# Altium footprint library PCB1_1.PcbLib: 64 footprints (part 2 of 4)
Each footprint in its own frame and in the unit in brackets; x right, y up, seen from the top. Pads: shape width x height; smd on the part's side, far side on the other; paste and mask are expansions set on the pad; w line width, h text height; cw(c..) or ccw(c..) is an arc to the next point about the centre after c.
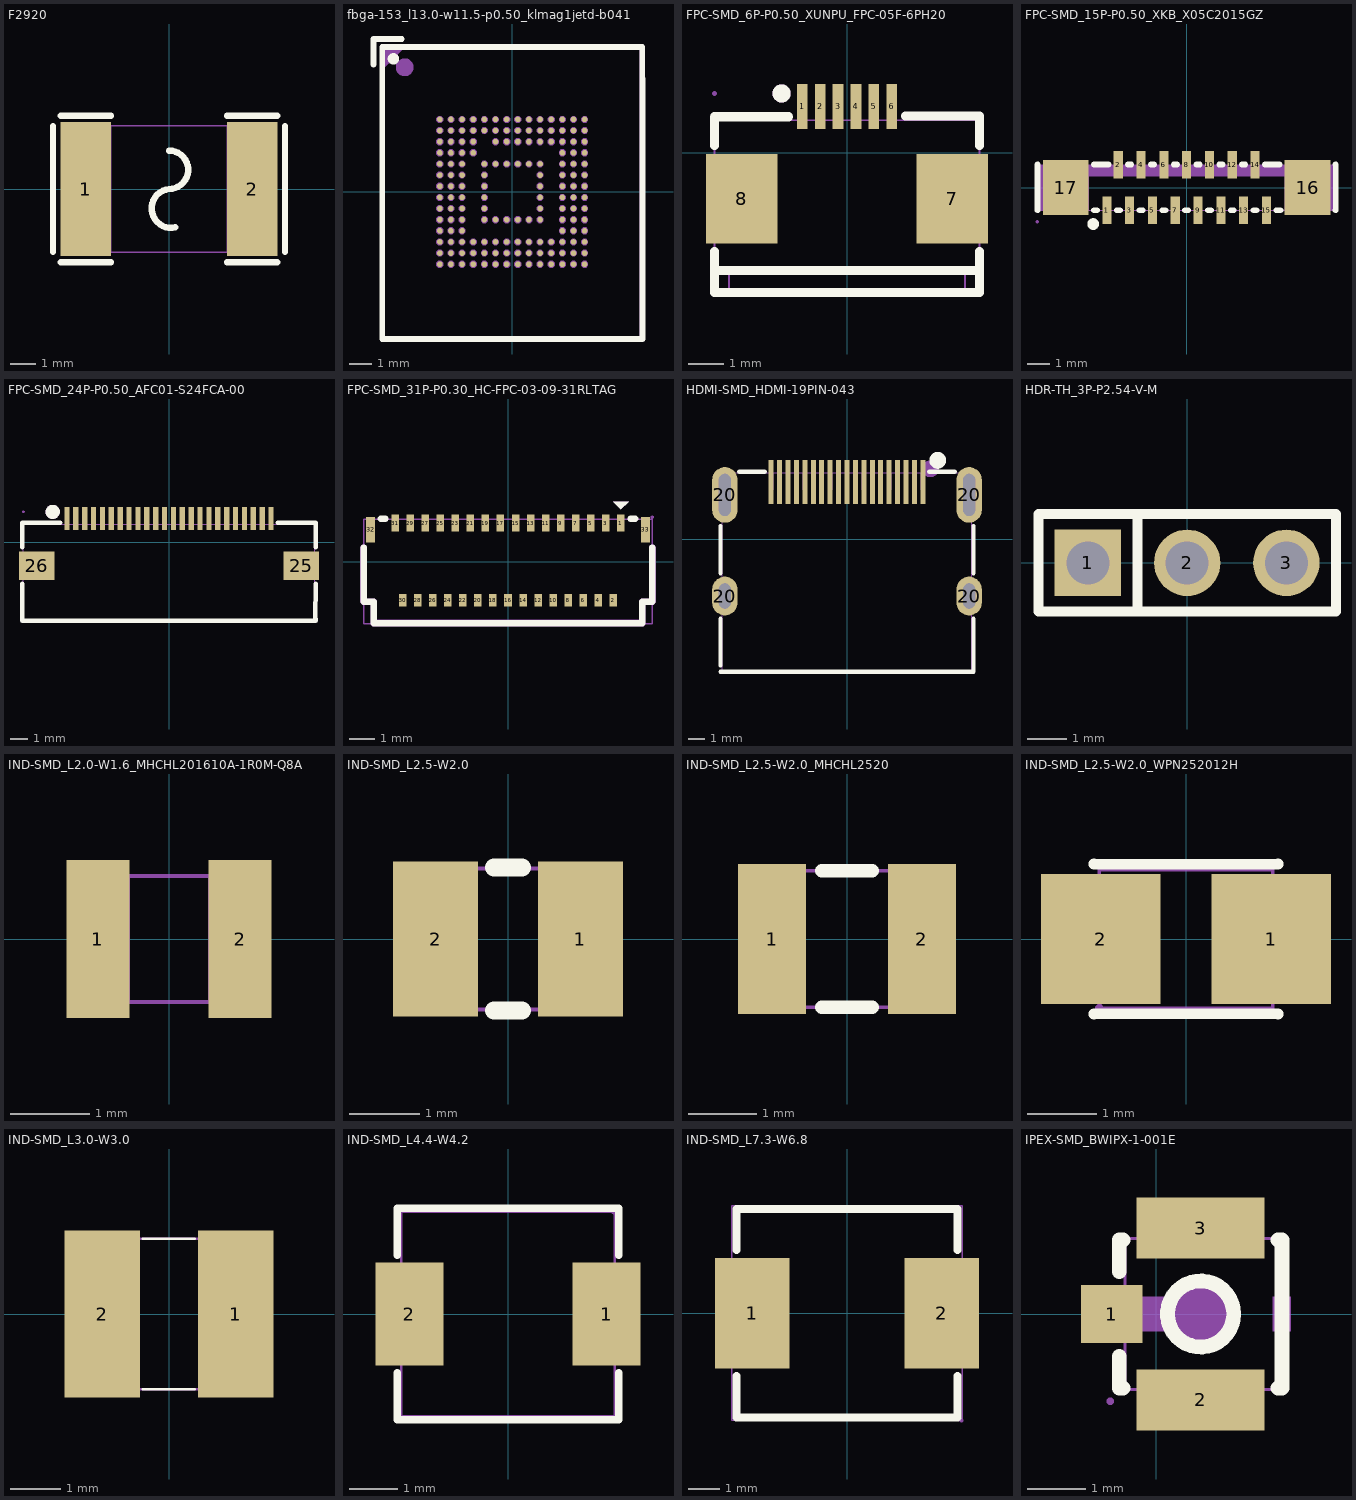
[diagram p1: the footprints below, top view; thin cyan lines are the x and y axes]

## F2920 [mm]
pads (2):
  rect 2x5.3 smd: 1(-3.3,0) 2(3.3,0)
Top Overlay:
  lines w0.254: -4.6,-2.5 -4.6,2.5 ; -4.3,-2.9 -2.3,-2.9 ; -4.3,2.9 -2.3,2.9 ; 0,1.524 cw(c0,0.762) 0,0 ccw(c0.085,-0.769) 0.254,-1.524 ; 2.3,-2.9 4.3,-2.9 ; 2.3,2.9 4.3,2.9 ; 4.6,-2.5 4.6,2.5
Mechanical 5:
  lines w0.051: -3.7,-2.5 -3.7,2.5 3.7,2.5 3.7,-2.5 -3.7,-2.5
Mechanical 6:
  region: -3.7,-2.56 -3.725,-2.56 -3.76,-2.525 -3.76,-2.475 -3.725,-2.44 -3.7,-2.44 -3.675,-2.44 -3.64,-2.475 -3.64,-2.525 -3.675,-2.56 -3.7,-2.56
Mechanical 7:
  region: 3.7,-2.5 2.3,-2.5 2.3,2.5 3.7,2.5
  region: -3.7,2.5 -2.3,2.5 -2.3,-2.5 -3.7,-2.5
3D body "F2920.step": height 0.5, standoff 0, extent -3.68,-2.56 3.68,2.56

## fbga-153_l13.0-w11.5-p0.50_klmag1jetd-b041 [mm]
pads (152):
  round 0.25 smd paste-100 mask+0.05: A1(-3.25,3.25) A2(-2.75,3.25) A3(-2.25,3.25) A4(-1.75,3.25) A5(-1.25,3.25) A6(-0.75,3.25) A7(-0.25,3.25) A8(0.25,3.25) A9(0.75,3.25) A10(1.25,3.25) A11(1.75,3.25) A12(2.25,3.25) A13(2.75,3.25) A14(3.25,3.25) B1(-3.25,2.75) B2(-2.75,2.75) B3(-2.25,2.75) B4(-1.75,2.75) B5(-1.25,2.75) B6(-0.75,2.75) B7(-0.25,2.75) B8(0.25,2.75) B9(0.75,2.75) B10(1.25,2.75) B11(1.75,2.75) B12(2.25,2.75) B13(2.75,2.75) B14(3.25,2.75) C1(-3.25,2.25) C2(-2.75,2.25) C3(-2.25,2.25) C4(-1.75,2.25) C6(-0.75,2.25) C7(-0.25,2.25) C8(0.25,2.25) C9(0.75,2.25) C10(1.25,2.25) C11(1.75,2.25) C12(2.25,2.25) C13(2.75,2.25) C14(3.25,2.25) D1(-3.25,1.75) D2(-2.75,1.75) D3(-2.25,1.75) D4(-1.75,1.75) D12(2.25,1.75) D13(2.75,1.75) D14(3.25,1.75) E1(-3.25,1.25) E2(-2.75,1.25) E3(-2.25,1.25) E5(-1.25,1.25) E6(-0.75,1.25) E7(-0.25,1.25) E8(0.25,1.25) E9(0.75,1.25) E10(1.25,1.25) E12(2.25,1.25) E13(2.75,1.25) E14(3.25,1.25) F1(-3.25,0.75) F2(-2.75,0.75) F3(-2.25,0.75) F5(-1.25,0.75) F10(1.25,0.75) F12(2.25,0.75) F13(2.75,0.75) F14(3.25,0.75) G1(-3.25,0.25) G2(-2.75,0.25) G3(-2.25,0.25) G5(-1.25,0.25) G10(1.25,0.25) G12(2.25,0.25) G13(2.75,0.25) G14(3.25,0.25) H1(-3.25,-0.25) H2(-2.75,-0.25) H3(-2.25,-0.25) H5(-1.25,-0.25) H10(1.25,-0.25) H12(2.25,-0.25) H13(2.75,-0.25) H14(3.25,-0.25) J1(-3.25,-0.75) J2(-2.75,-0.75) J3(-2.25,-0.75) J5(-1.25,-0.75) J10(1.25,-0.75) J12(2.25,-0.75) J13(2.75,-0.75) J14(3.25,-0.75) K1(-3.25,-1.25) K2(-2.75,-1.25) K3(-2.25,-1.25) K5(-1.25,-1.25) K6(-0.75,-1.25) K7(-0.25,-1.25) K8(0.25,-1.25) K9(0.75,-1.25) K10(1.25,-1.25) K12(2.25,-1.25) K13(2.75,-1.25) K14(3.25,-1.25) L1(-3.25,-1.75) L2(-2.75,-1.75) L3(-2.25,-1.75) L12(2.25,-1.75) L13(2.75,-1.75) L14(3.25,-1.75) M1(-3.25,-2.25) M2(-2.75,-2.25) M3(-2.25,-2.25) M4(-1.75,-2.25) M5(-1.25,-2.25) M6(-0.75,-2.25) M7(-0.25,-2.25) M8(0.25,-2.25) M9(0.75,-2.25) M10(1.25,-2.25) M11(1.75,-2.25) M12(2.25,-2.25) M13(2.75,-2.25) M14(3.25,-2.25) N1(-3.25,-2.75) N2(-2.75,-2.75) N3(-2.25,-2.75) N4(-1.75,-2.75) N5(-1.25,-2.75) N6(-0.75,-2.75) N7(-0.25,-2.75) N8(0.25,-2.75) N9(0.75,-2.75) N10(1.25,-2.75) N11(1.75,-2.75) N12(2.25,-2.75) N13(2.75,-2.75) N14(3.25,-2.75) P1(-3.25,-3.25) P2(-2.75,-3.25) P3(-2.25,-3.25) P4(-1.75,-3.25) P5(-1.25,-3.25) P6(-0.75,-3.25) P7(-0.25,-3.25) P8(0.25,-3.25) P9(0.75,-3.25) P10(1.25,-3.25) P11(1.75,-3.25) P12(2.25,-3.25) P13(2.75,-3.25) P14(3.25,-3.25)
Top Overlay:
  circle w0.254: c-5.334,5.969 r0.127
  lines w0.254: -6.223,5.715 -6.223,6.858 -4.953,6.858 ; -5.841,-6.605 5.843,-6.605 5.843,5.079 ; -5.841,-6.5 -5.841,6.5 5.842,6.5 5.842,5.079
Top Paste:
  drawing of 152 lines, arcs and shapes, not listed
Mechanical 4:
  circle w0.4: c-4.826,5.588 r0.2
  region: -4.826,6.477 -5.715,6.477 -5.715,5.588
Mechanical 5:
  lines w0.051: -5.75,-6.5 -5.75,6.5 5.75,6.5 5.75,-6.5 -5.75,-6.5
Mechanical 6:
  region: -5.75,6.44 -5.775,6.44 -5.81,6.475 -5.81,6.525 -5.775,6.56 -5.75,6.56 -5.725,6.56 -5.69,6.525 -5.69,6.475 -5.725,6.44 -5.75,6.44
Mechanical 7:
  drawing of 152 lines, arcs and shapes, not listed
3D body "FBGA-153_L13.0-W11.5-P0.50_KLMAG1JETD-B041.step": height 0.89, standoff -0.22, extent -5.749,-6.5 5.751,6.5

## FPC-SMD_6P-P0.50_XUNPU_FPC-05F-6PH20 [mm]
pads (8):
  rect 0.3x1.25 smd paste+0 mask+0.05: 1(-1.25,1.288) 2(-0.75,1.288) 3(-0.25,1.288) 4(0.25,1.288) 5(0.75,1.288) 6(1.25,1.288)
  rect 2x2.5 smd paste+0 mask+0.05: 7(2.94,-1.288) 8(-2.94,-1.288)
Top Overlay:
  circle w0.254: c-1.827,1.651 r0.127
  lines w0.254: -3.7,-2.769 -3.7,-3.912 3.7,-3.912 3.7,-2.769 ; -3.7,0.194 -3.7,1 -1.631,1 ; -3.55,-3.3 3.7,-3.3 ; 1.631,1.016 3.7,1.016 3.7,0.194
Mechanical 4:
  circle w0.254: c-1.827,1.651 r0.127
Mechanical 5:
  lines w0.051: -3.7,-3.3 -2.65,-3.3 -2.65,-3.35 -3.25,-3.35 -3.3,-3.4 -3.3,-3.9 -3.25,-3.95 3.25,-3.95 3.3,-3.9 3.3,-3.4 3.25,-3.35 2.65,-3.35 2.65,-3.3 3.7,-3.3 3.7,0 3.7,0.8 3.6,0.9 -3.6,0.9 -3.7,0.8 -3.7,-3.3
Mechanical 6:
  region: -3.64,1.65 -3.64,1.675 -3.675,1.71 -3.725,1.71 -3.76,1.675 -3.76,1.65 -3.76,1.625 -3.725,1.59 -3.675,1.59 -3.64,1.625 -3.64,1.65
Mechanical 7:
  region: -3.7,-1.8 -2.25,-1.8 -2.25,-0.7 -3.7,-0.7
  region: 3.7,-0.7 2.25,-0.7 2.25,-1.8 3.7,-1.8
  region: -1.35,1.65 -1.35,0.8 -1.15,0.8 -1.15,1.65
  region: -0.85,1.65 -0.85,0.8 -0.65,0.8 -0.65,1.65
  region: -0.35,1.65 -0.35,0.8 -0.15,0.8 -0.15,1.65
  region: 0.15,1.65 0.15,0.8 0.35,0.8 0.35,1.65
  region: 0.65,1.65 0.65,0.8 0.85,0.8 0.85,1.65
  region: 1.15,1.65 1.15,0.8 1.35,0.8 1.35,1.65
3D body "FPC-SMD_6P-P0.50_XUNPU_FPC-05F-6PH20.step": height 2.01, standoff 0, extent -3.7,-3.937 3.7,1.663

## FPC-SMD_15P-P0.50_XKB_X05C2015GZ [mm]
pads (17):
  rect 0.4x1.2 smd: 1(-3.5,-1) 2(-3,1) 3(-2.5,-1) 4(-2,1) 5(-1.5,-1) 6(-1,1) 7(-0.5,-1) 8(0,1) 9(0.5,-1) 10(1,1) 11(1.5,-1) 12(2,1) 13(2.5,-1) 14(3,1) 15(3.5,-1)
  rect 2x2.4 smd: 16(5.3,0) 17(-5.3,0)
Top Overlay:
  circle w0.254: c-4.1,-1.6 r0.127
  lines w0.254: -6.54,1 -6.54,-1 -6.531,-1 ; -6.54,1.014 -6.531,1.014 ; -4.069,-1 -3.931,-1 ; -4.069,1.014 -3.431,1.014 ; -3.069,-1 -2.931,-1 ; -2.569,1.014 -2.431,1.014 ; -2.069,-1 -1.931,-1 ; -1.569,1.014 -1.431,1.014 ; -1.069,-1 -0.931,-1 ; -0.569,1.014 -0.431,1.014 ; -0.069,-1 0.069,-1 ; 0.431,1.014 0.569,1.014 ; 0.931,-1 1.069,-1 ; 1.431,1.014 1.569,1.014 ; 1.931,-1 2.069,-1 ; 2.431,1.014 2.569,1.014 ; 2.931,-1 3.069,-1 ; 3.431,1.014 4.069,1.014 ; 3.931,-1 4.069,-1 ; 3.937,-1 4.111,-1 ; 6.531,-1 6.541,-1 ; 6.531,1.014 6.541,1.014 6.541,-0.986
Mechanical 4:
  region: 6.5,-1 6.5,1 -6.5,1 -6.5,-1 -4.3,-1 -4.3,0.5 4.3,0.5 4.3,-1
Mechanical 5:
  lines w0.051: -6.55,-1 6.55,-1 6.55,1 -6.55,1 -6.55,-1
Mechanical 6:
  region: -6.55,-1.44 -6.525,-1.44 -6.49,-1.475 -6.49,-1.525 -6.525,-1.56 -6.55,-1.56 -6.575,-1.56 -6.61,-1.525 -6.61,-1.475 -6.575,-1.44 -6.55,-1.44
Mechanical 7:
  region: 3.4,-0.95 3.6,-0.95 3.6,-1.5 3.4,-1.5
  region: 2.9,1.5 3.1,1.5 3.1,0.95 2.9,0.95
  region: 2.4,-0.95 2.6,-0.95 2.6,-1.5 2.4,-1.5
  region: 1.9,1.5 2.1,1.5 2.1,0.95 1.9,0.95
  region: 1.4,-0.95 1.6,-0.95 1.6,-1.5 1.4,-1.5
  region: 0.9,1.5 1.1,1.5 1.1,0.95 0.9,0.95
  region: 0.4,-0.95 0.6,-0.95 0.6,-1.5 0.4,-1.5
  region: -0.1,1.5 0.1,1.5 0.1,0.95 -0.1,0.95
  region: -0.6,-0.95 -0.4,-0.95 -0.4,-1.5 -0.6,-1.5
  region: -1.1,1.5 -0.9,1.5 -0.9,0.95 -1.1,0.95
  region: -1.6,-0.95 -1.4,-0.95 -1.4,-1.5 -1.6,-1.5
  region: -2.1,1.5 -1.9,1.5 -1.9,0.95 -2.1,0.95
  region: -2.6,-0.95 -2.4,-0.95 -2.4,-1.5 -2.6,-1.5
  region: -3.1,1.5 -2.9,1.5 -2.9,0.95 -3.1,0.95
  region: -3.6,-0.95 -3.4,-0.95 -3.4,-1.5 -3.6,-1.5
  region: 4.3,1 6.3,1 6.3,-1 4.3,-1
  region: -6.3,1 -4.3,1 -4.3,-1 -6.3,-1
3D body "FPC-SMD_15P-P0.50_XKB_X05C2015GZ.step": height 4.44, standoff 0.05, extent -6.55,-1.5 6.55,1.5

## FPC-SMD_24P-P0.50_AFC01-S24FCA-00 [mm]
pads (26):
  rect 0.3x1.3 smd paste+0 mask+0.05: 1(-5.75,1.325) 2(-5.25,1.325) 3(-4.75,1.325) 4(-4.25,1.325) 5(-3.75,1.325) 6(-3.25,1.325) 7(-2.75,1.325) 8(-2.25,1.325) 9(-1.75,1.325) 10(-1.25,1.325) 11(-0.75,1.325) 12(-0.25,1.325) 13(0.25,1.325) 14(0.75,1.325) 15(1.25,1.325) 16(1.75,1.325) 17(2.25,1.325) 18(2.75,1.325) 19(3.25,1.325) 20(3.75,1.325) 21(4.25,1.325) 22(4.75,1.325) 23(5.25,1.325) 24(5.75,1.325)
  rect 2x1.6 smd: 25(7.45,-1.325) 26(-7.45,-1.325)
Top Overlay:
  circle w0.4: c-6.55,1.7 r0.2
  lines w0.254: -8.264,-2.355 -8.264,-4.445 8.256,-4.445 8.256,-4.318 ; -8.263,-0.294 -8.263,1.088 -6.131,1.088 ; 6.131,1.088 8.263,1.088 8.263,-0.294 ; 8.25,-4.35 8.263,-2.356
Mechanical 4:
  circle w0.4: c-6.55,1.7 r0.2
Mechanical 5:
  lines w0.051: -8.2,-4.395 8.2,-4.395 8.2,1.005 -8.2,1.005 -8.2,-4.395
Mechanical 6:
  region: -8.14,1.705 -8.14,1.68 -8.175,1.645 -8.225,1.645 -8.26,1.68 -8.26,1.705 -8.26,1.73 -8.225,1.765 -8.175,1.765 -8.14,1.73 -8.14,1.705
Mechanical 7:
  region: 5.85,0.955 5.65,0.955 5.65,1.705 5.85,1.705
  region: 5.35,0.955 5.15,0.955 5.15,1.705 5.35,1.705
  region: 4.85,0.955 4.65,0.955 4.65,1.705 4.85,1.705
  region: 4.35,0.955 4.15,0.955 4.15,1.705 4.35,1.705
  region: 3.85,0.955 3.65,0.955 3.65,1.705 3.85,1.705
  region: 3.35,0.955 3.15,0.955 3.15,1.705 3.35,1.705
  region: 2.85,0.955 2.65,0.955 2.65,1.705 2.85,1.705
  region: 2.35,0.955 2.15,0.955 2.15,1.705 2.35,1.705
  region: 1.85,0.955 1.65,0.955 1.65,1.705 1.85,1.705
  region: 1.35,0.955 1.15,0.955 1.15,1.705 1.35,1.705
  region: 0.85,0.955 0.65,0.955 0.65,1.705 0.85,1.705
  region: 0.35,0.955 0.15,0.955 0.15,1.705 0.35,1.705
  region: -0.15,0.955 -0.35,0.955 -0.35,1.705 -0.15,1.705
  region: -0.65,0.955 -0.85,0.955 -0.85,1.705 -0.65,1.705
  region: -1.15,0.955 -1.35,0.955 -1.35,1.705 -1.15,1.705
  region: -1.65,0.955 -1.85,0.955 -1.85,1.705 -1.65,1.705
  region: -2.15,0.955 -2.35,0.955 -2.35,1.705 -2.15,1.705
  region: -2.65,0.955 -2.85,0.955 -2.85,1.705 -2.65,1.705
  region: -3.15,0.955 -3.35,0.955 -3.35,1.705 -3.15,1.705
  region: -3.65,0.955 -3.85,0.955 -3.85,1.705 -3.65,1.705
  region: -4.15,0.955 -4.35,0.955 -4.35,1.705 -4.15,1.705
  region: -4.65,0.955 -4.85,0.955 -4.85,1.705 -4.65,1.705
  region: -5.15,0.955 -5.35,0.955 -5.35,1.705 -5.15,1.705
  region: -5.65,0.955 -5.85,0.955 -5.85,1.705 -5.65,1.705
  region: -6.7,-0.825 -6.7,-1.825 -8.2,-1.825 -8.2,-0.825
  region: 8.2,-0.825 8.2,-1.825 6.7,-1.825 6.7,-0.825
3D body "FPC-SMD_24P-P0.50_AFC01-S24FCA-00.step": height 1.98, standoff -0.03, extent -8.2,-4.453 8.2,1.647

## FPC-SMD_31P-P0.30_HC-FPC-03-09-31RLTAG [mm]
pads (33):
  rect 0.3x0.67 smd paste+0 mask+0.05: 1(4.5,1.533) 3(3.9,1.533) 5(3.3,1.533) 7(2.7,1.533) 9(2.1,1.533) 11(1.5,1.533) 13(0.9,1.533) 15(0.3,1.533) 17(-0.3,1.533) 19(-0.9,1.533) 21(-1.5,1.533) 23(-2.1,1.533) 25(-2.7,1.533) 27(-3.3,1.533) 29(-3.9,1.533) 31(-4.5,1.533)
  rect 0.3x0.5 smd paste+0 mask+0.05: 2(4.2,-1.533) 4(3.6,-1.533) 6(3,-1.533) 8(2.4,-1.533) 10(1.8,-1.533) 12(1.2,-1.533) 14(0.6,-1.533) 16(0,-1.533) 18(-0.6,-1.533) 20(-1.2,-1.533) 22(-1.8,-1.533) 24(-2.4,-1.533) 26(-3,-1.533) 28(-3.6,-1.533) 30(-4.2,-1.533)
  rect 0.35x1 smd paste+0 mask+0.05: 32(-5.475,1.268) 33(5.475,1.268)
Top Overlay:
  region: 4.5,2.082 4.8,2.382 4.2,2.382
  lines w0.254: -5.75,0.559 -5.75,-1.6 -5.35,-1.6 -5.35,-2.45 5.35,-2.45 5.35,-1.6 5.75,-1.6 5.75,0.559 ; -5.069,1.7 -4.881,1.7 ; 4.881,1.7 5.069,1.7
Mechanical 4:
  region: -5.623,0.559 -5.623,-1.473 -5.35,-1.473 -5.301,-1.483 -5.26,-1.51 -5.233,-1.551 -5.223,-1.6 -5.223,-2.323 5.223,-2.323 5.223,-1.6 5.233,-1.551 5.26,-1.51 5.301,-1.483 5.35,-1.473 5.623,-1.473 5.623,0.559 5.633,0.608 5.66,0.649 5.701,0.677 5.75,0.686 5.799,0.677 5.84,0.649 5.867,0.608 5.877,0.559 5.877,-1.6 5.867,-1.649 5.84,-1.69 5.799,-1.717 5.75,-1.727 5.477,-1.727 5.477,-2.45 5.467,-2.499 5.44,-2.54 5.399,-2.567 5.35,-2.577 -5.35,-2.577 -5.399,-2.567 -5.44,-2.54 -5.467,-2.499 -5.477,-2.45 -5.477,-1.727 -5.75,-1.727 -5.799,-1.717 -5.84,-1.69 -5.867,-1.649 -5.877,-1.6 -5.877,0.559 -5.867,0.608 -5.84,0.649 -5.799,0.677 -5.75,0.686 -5.701,0.677 -5.66,0.649 -5.633,0.608
  region: 4.5,2.082 4.8,2.382 4.2,2.382
Mechanical 5:
  lines w0.051: -5.75,-2.475 5.75,-2.475 5.75,1.695 -5.75,1.695 -5.75,-2.475
Mechanical 6:
  region: 5.81,1.773 5.81,1.748 5.775,1.713 5.725,1.713 5.69,1.748 5.69,1.773 5.69,1.797 5.725,1.833 5.775,1.833 5.81,1.797 5.81,1.773
Mechanical 7:
  drawing of 33 lines, arcs and shapes, not listed
3D body "FPC-SMD_31P-P0.30_HC-FPC-03-09-31RLTAG.step": height 1, standoff -0.02, extent -5.76,-2.52 5.75,1.73

## HDMI-SMD_HDMI-19PIN-043 [mm]
pads (23):
  rect 0.3x2.6 smd paste-100 mask+0.05: 1(4.5,3.38) 2(4,3.38) 3(3.5,3.38) 4(3,3.38) 5(2.5,3.38) 6(2,3.38) 7(1.5,3.38) 8(1,3.38) 9(0.5,3.38) 10(0,3.38) 11(-0.5,3.38) 12(-1,3.38) 13(-1.5,3.38) 14(-2,3.38) 15(-2.5,3.38) 16(-3,3.38) 17(-3.5,3.38) 18(-4,3.38) 19(-4.5,3.38)
  oval 1.5x2.3 hole 0.7 slot 1.5 at 90 deg paste+0 mask+0.05: 20(-7.25,-3.38) 20(7.25,-3.38)
  oval 1.5x3.3 hole 0.7 slot 2.5 at 90 deg paste+0 mask+0.05: 20(-7.25,2.62) 20(7.25,2.62)
Top Overlay:
  circle w0.5: c5.38,4.67 r0.25
  lines w0.254: -7.5,-7.88 7.5,-7.88 7.5,-4.729 ; -7.5,-7.5 -7.5,-4.729 ; -7.5,-2.031 -7.5,0.771 ; -6.395,4 -4.881,4 ; 4.881,4 6.395,4 ; 7.5,-2.031 7.5,0.771
Top Paste:
  drawing of 23 lines, arcs and shapes, not listed
Mechanical 4:
  circle w0.5: c4.95,4.17 r0.25
Mechanical 5:
  lines w0.051: -7.4,-7.88 7.4,-7.88 7.4,3.92 -7.4,3.92 -7.4,-7.88
Mechanical 6:
  region: 7.39,3.92 7.39,3.945 7.425,3.98 7.475,3.98 7.51,3.945 7.51,3.92 7.51,3.895 7.475,3.86 7.425,3.86 7.39,3.895 7.39,3.92
Mechanical 7:
  region: -7.45,-2.88 -7.05,-2.88 -7.05,-3.88 -7.45,-3.88
  region: 7.05,-2.88 7.45,-2.88 7.45,-3.88 7.05,-3.88
  region: 7.05,3.62 7.45,3.62 7.45,1.62 7.05,1.62
  region: -7.45,3.62 -7.05,3.62 -7.05,1.62 -7.45,1.62
  region: -4.615,3.92 -4.385,3.92 -4.385,2.92 -4.615,2.92
  region: -4.115,3.92 -3.885,3.92 -3.885,2.92 -4.115,2.92
  region: -3.615,3.92 -3.385,3.92 -3.385,2.92 -3.615,2.92
  region: -3.115,3.92 -2.885,3.92 -2.885,2.92 -3.115,2.92
  region: -2.615,3.92 -2.385,3.92 -2.385,2.92 -2.615,2.92
  region: -2.115,3.92 -1.885,3.92 -1.885,2.92 -2.115,2.92
  region: -1.615,3.92 -1.385,3.92 -1.385,2.92 -1.615,2.92
  region: -1.115,3.92 -0.885,3.92 -0.885,2.92 -1.115,2.92
  region: -0.615,3.92 -0.385,3.92 -0.385,2.92 -0.615,2.92
  region: -0.115,3.92 0.115,3.92 0.115,2.92 -0.115,2.92
  region: 0.385,3.92 0.615,3.92 0.615,2.92 0.385,2.92
  region: 0.885,3.92 1.115,3.92 1.115,2.92 0.885,2.92
  region: 1.385,3.92 1.615,3.92 1.615,2.92 1.385,2.92
  region: 1.885,3.92 2.115,3.92 2.115,2.92 1.885,2.92
  region: 2.385,3.92 2.615,3.92 2.615,2.92 2.385,2.92
  region: 2.885,3.92 3.115,3.92 3.115,2.92 2.885,2.92
  region: 3.385,3.92 3.615,3.92 3.615,2.92 3.385,2.92
  region: 3.885,3.92 4.115,3.92 4.115,2.92 3.885,2.92
  region: 4.385,3.92 4.615,3.92 4.615,2.92 4.385,2.92
3D body "HDMI-SMD_HDMI-19PIN-043.step": height 6.34, standoff -1.87, extent -7.5,-7.88 7.5,4.17

## HDR-TH_3P-P2.54-V-M [mm]
pads (3):
  rect 1.7x1.7 hole 1.1: 1(-2.54,0)
  round 1.7 hole 1.1: 2(0,0) 3(2.54,0)
Top Overlay:
  lines w0.254: -1.27,-1.25 -1.27,1.25 ; 3.809,-1.25 3.809,1.25 -3.81,1.25 -3.81,-1.25 3.81,-1.25
Mechanical 5:
  lines w0.051: -3.81,-1.25 -3.81,1.25 3.81,1.25 3.81,-1.25 -3.81,-1.25
Mechanical 6:
  region: -3.81,-1.19 -3.785,-1.19 -3.75,-1.225 -3.75,-1.275 -3.785,-1.31 -3.81,-1.31 -3.835,-1.31 -3.87,-1.275 -3.87,-1.225 -3.835,-1.19 -3.81,-1.19
Mechanical 7:
  region: 2.22,0.32 2.86,0.32 2.86,-0.32 2.22,-0.32
  region: -0.32,0.32 0.32,0.32 0.32,-0.32 -0.32,-0.32
  region: -2.86,0.32 -2.22,0.32 -2.22,-0.32 -2.86,-0.32
3D body "HDR-TH_3P-P2.54-V-M-1.step": height 8.5, standoff -3, extent -3.82,-1.27 3.81,1.27

## IND-SMD_L2.0-W1.6_MHCHL201610A-1R0M-Q8A [mm]
pads (2):
  rect 0.8x2 smd paste+0 mask+0.051: 1(-0.9,0) 2(0.9,0)
Mechanical 5:
  lines w0.051: -1,-0.8 -1,0.8 1,0.8 1,-0.8 -1,-0.8
Mechanical 6:
  region: -1.06,-0.8 -1.06,-0.775 -1.025,-0.74 -0.975,-0.74 -0.94,-0.775 -0.94,-0.8 -0.94,-0.825 -0.975,-0.86 -1.025,-0.86 -1.06,-0.825 -1.06,-0.8
Mechanical 7:
  region: 0.5,0.8 1,0.8 1,-0.8 0.5,-0.8
  region: -1,0.8 -0.5,0.8 -0.5,-0.8 -1,-0.8
3D body "IND-SMD_L2.0-W1.6_MHCHL201610A-1R0M-Q8A.step": height 1, standoff -0.01, extent -1.01,-0.81 1.01,0.81

## IND-SMD_L2.5-W2.0 [mm]
pads (2):
  rect 1.2x2.2 smd: 1(1.028,0) 2(-1.028,0)
Top Overlay:
  lines w0.254: -0.197,-1.016 0.197,-1.016 ; -0.197,1.016 0.197,1.016
Mechanical 5:
  lines w0.051: -1.25,-1 -1.25,1 1.25,1 1.25,-1 -1.25,-1
Mechanical 6:
  region: -1.28,-0.97 -1.28,-0.945 -1.245,-0.91 -1.195,-0.91 -1.16,-0.945 -1.16,-0.97 -1.16,-0.995 -1.195,-1.03 -1.245,-1.03 -1.28,-0.995 -1.28,-0.97
Mechanical 7:
  region: -1.25,1 -0.45,1 -0.45,-1 -1.25,-1
  region: 0.45,1 1.25,1 1.25,-1 0.45,-1
3D body "IND-SMD_L2.5-W2.0.step": height 1.2, standoff 0, extent -1.26,-1 1.26,1

## IND-SMD_L2.5-W2.0_MHCHL2520 [mm]
pads (2):
  rect 1x2.2 smd: 1(-1.1,0) 2(1.1,0)
Top Overlay:
  lines w0.2: -0.369,-1 0.369,-1 ; -0.369,1 0.369,1
Mechanical 5:
  lines w0.051: -1.25,-1 1.25,-1 1.25,1 -1.25,1 -1.25,-1
Mechanical 6:
  region: -1.31,-1 -1.31,-0.975 -1.275,-0.94 -1.225,-0.94 -1.19,-0.975 -1.19,-1 -1.19,-1.025 -1.225,-1.06 -1.275,-1.06 -1.31,-1.025 -1.31,-1
Mechanical 7:
  region: 1.25,1 1.25,-1 0.65,-1 0.65,1
  region: -0.65,1 -0.65,-1 -1.25,-1 -1.25,1
3D body "IND-SMD_L2.5-W2.0.step": height 1.2, standoff 0, extent -1.26,-1 1.26,1

## IND-SMD_L2.5-W2.0_WPN252012H [mm]
pads (2):
  rect 1.724x1.87 smd: 1(1.228,0) 2(-1.228,0)
Top Overlay:
  lines w0.152: -1.326,-1.087 -1.326,-1.076 1.326,-1.076 1.326,-1.087 ; -1.326,1.087 -1.326,1.076 1.326,1.076 1.326,1.087
Mechanical 5:
  lines w0.051: -1.25,-1 1.25,-1 1.25,1 -1.25,1 -1.25,-1
Mechanical 6:
  region: -1.31,-1 -1.31,-0.975 -1.275,-0.94 -1.225,-0.94 -1.19,-0.975 -1.19,-1 -1.19,-1.025 -1.225,-1.06 -1.275,-1.06 -1.31,-1.025 -1.31,-1
Mechanical 7:
  region: -0.45,-0.825 -1.25,-0.825 -1.25,0.825 -0.45,0.825
  region: 0.45,0.825 1.25,0.825 1.25,-0.825 0.45,-0.825
3D body "IND-SMD_L2.5-W2.0.step": height 1.2, standoff 0, extent -1.26,-1 1.26,1

## IND-SMD_L3.0-W3.0 [mm]
pads (2):
  rect 1.5x3.32 smd paste+0 mask+0.051: 1(1.328,0) 2(-1.328,0)
Top Overlay:
  lines w0.05: -0.526,-1.5 0.517,-1.5 ; -0.526,1.5 0.517,1.5
Mechanical 5:
  lines w0.051: -1.5,-1.5 1.5,-1.5 1.5,1.5 -1.5,1.5 -1.5,-1.5
Mechanical 6:
  region: -1.56,-1.5 -1.56,-1.475 -1.525,-1.44 -1.475,-1.44 -1.44,-1.475 -1.44,-1.5 -1.44,-1.525 -1.475,-1.56 -1.525,-1.56 -1.56,-1.525 -1.56,-1.5
Mechanical 7:
  region: 1.5,-1.45 1.5,1.45 0.75,1.45 0.75,-1.45
  region: -1.5,-1.45 -1.5,1.45 -0.75,1.45 -0.75,-1.45
3D body "IND-SMD_L3.0-W3.0_SRN3015C.step": height 1.55, standoff 0.04, extent -1.501,-1.5 1.501,1.5

## IND-SMD_L4.4-W4.2 [mm]
pads (2):
  rect 1.4x2.12 smd: 1(2.028,0) 2(-2.028,0)
Top Overlay:
  lines w0.152: -2.276,-1.212 -2.276,-2.176 2.276,-2.176 2.276,-1.212 ; -2.276,1.212 -2.276,2.176 2.276,2.176 2.276,1.212
Mechanical 5:
  lines w0.051: -2.2,-2.1 2.2,-2.1 2.2,2.1 -2.2,2.1 -2.2,-2.1
Mechanical 6:
  region: 2.2,2.16 2.225,2.16 2.26,2.125 2.26,2.075 2.225,2.04 2.2,2.04 2.175,2.04 2.14,2.075 2.14,2.125 2.175,2.16 2.2,2.16
Mechanical 7:
  region: -2.2,1 -1.4,1 -1.4,-1 -2.2,-1
  region: 1.4,1 2.2,1 2.2,-1 1.4,-1
3D body "IND-SMD_L4.4-W4.2.step": height 2.1, standoff 0, extent -2.2,-2.1 2.2,2.1

## IND-SMD_L7.3-W6.8 [mm]
pads (2):
  rect 2.35x3.5 smd: 1(-3,0) 2(3,0)
Top Overlay:
  lines w0.254: -3.5,-2 -3.5,-3.3 3.5,-3.3 3.5,-2 ; -3.5,2 -3.5,3.3 3.5,3.3 3.5,2
Mechanical 5:
  lines w0.051: -3.65,-3.4 3.65,-3.4 3.65,3.4 -3.65,3.4 -3.65,-3.4
Mechanical 6:
  region: 3.62,-3.46 3.595,-3.46 3.56,-3.425 3.56,-3.375 3.595,-3.34 3.62,-3.34 3.645,-3.34 3.68,-3.375 3.68,-3.425 3.645,-3.46 3.62,-3.46
Mechanical 7:
  region: -3.65,1.45 -2.05,1.45 -2.05,-1.45 -3.65,-1.45
  region: 2.05,1.45 3.65,1.45 3.65,-1.45 2.05,-1.45
3D body "IND-SMD_L7.3-W6.8.step": height 3.15, standoff 0.1, extent -3.71,-3.4 3.71,3.4

## IPEX-SMD_BWIPX-1-001E [mm]
pads (3):
  rect 1.05x1 smd: 1(-0.763,0)
  rect 2.2x1.05 smd: 2(0.763,-1.475) 3(0.763,1.475)
Top Overlay:
  circle w0.254: c0.763,0 r0.568
  lines w0.254: -0.635,-0.731 -0.635,-1.27 -0.569,-1.27 ; -0.635,0.731 -0.635,1.27 -0.569,1.27 ; 2.094,-1.27 2.16,-1.27 2.16,-0.731 2.16,0.731 2.16,1.27 2.094,1.27
Mechanical 4:
  circle w0.2: c-1.015,0 r0.1
  region: 1.293,0 1.284,-0.099 1.255,-0.194 1.208,-0.282 1.145,-0.359 1.068,-0.422 0.98,-0.469 0.884,-0.498 0.785,-0.508 0.693,-0.498 0.603,-0.47 0.521,-0.427 0.447,-0.37 0.385,-0.3 -0.45,-0.3 -0.45,0.3 0.385,0.3 0.447,0.37 0.521,0.427 0.603,0.47 0.693,0.498 0.785,0.508 0.884,0.498 0.98,0.469 1.068,0.422 1.145,0.359 1.208,0.282 1.255,0.194 1.284,0.099
Mechanical 5:
  lines w0.051: -0.537,-1.3 2.063,-1.3 2.063,1.3 -0.537,1.3 -0.537,-1.3
Mechanical 6:
  region: -0.727,-1.5 -0.727,-1.525 -0.763,-1.56 -0.812,-1.56 -0.847,-1.525 -0.847,-1.5 -0.847,-1.475 -0.812,-1.44 -0.763,-1.44 -0.727,-1.475 -0.727,-1.5
Mechanical 7:
  region: 1.663,1.1 -0.137,1.1 -0.137,1.5 1.663,1.5
  region: 1.663,-1.5 -0.137,-1.5 -0.137,-1.1 1.663,-1.1
  region: -0.437,0.3 -0.437,-0.3 -0.787,-0.3 -0.787,0.3
Mechanical 8:
  region: 2,0.3 2.312,0.3 2.312,-0.3 2,-0.3
  region: 1.293,0 1.284,-0.099 1.255,-0.194 1.208,-0.282 1.145,-0.359 1.068,-0.422 0.98,-0.469 0.884,-0.498 0.785,-0.508 0.693,-0.498 0.603,-0.47 0.521,-0.427 0.447,-0.37 0.385,-0.3 -0.45,-0.3 -0.45,0.3 0.385,0.3 0.447,0.37 0.521,0.427 0.603,0.47 0.693,0.498 0.785,0.508 0.884,0.498 0.98,0.469 1.068,0.422 1.145,0.359 1.208,0.282 1.255,0.194 1.284,0.099
3D body "IPEX-SMD_BWIPX-1-001E.step": height 1.25, standoff -0.01, extent -0.787,-1.5 2.313,1.5